# EAGLE library part 5584ТЛ2 (library std-logic-5584series)
АЕЯР.431200.209 ТУ 5584ТЛ2У, 5584ТЛ2АУ - Шесть триггеров Шмитта-инверторов.
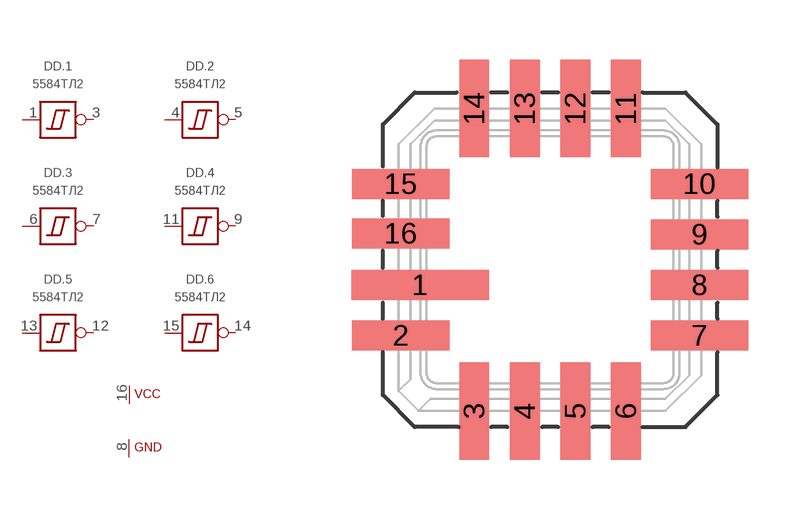
[diagram p20: symbol with the pads of 5119.16-А; footprint 5119.16-А]

Designator prefix DD; gates .3=5584ТЛ2 .1=5584ТЛ2 .4=5584ТЛ2 .2=5584ТЛ2 .5=5584ТЛ2 .6=5584ТЛ2 G$7=5584_PWR3

## 5584ТЛ2У  [5119.16-А]
1  .1:A  in
3  .1:Y  out
4  .2:A  in
5  .2:Y  out
6  .3:A  in
7  .3:Y  out
8  G$7:GND  pwr
9  .4:Y  out
11  .4:A  in
12  .5:Y  out
13  .5:A  in
14  .6:Y  out
15  .6:A  in
16  G$7:VCC  pwr

## 5584ТЛ2АУ  [5119.16-А]
Pads as for 5119.16-А

## Footprint 5119.16-А (pad centres in mm)
smd 3.45 x 0.75: 1 -3.26,-0.635
smd 2.45 x 0.75: 2 -3.75,-1.905; 7 3.75,-1.905; 8 3.75,-0.635; 9 3.75,0.635; 10 3.75,1.905; 15 -3.75,1.905; 16 -3.75,0.66
smd 0.75 x 2.45: 3 -1.905,-3.8; 4 -0.635,-3.8; 5 0.635,-3.8; 6 1.905,-3.8; 11 1.905,3.8; 12 0.635,3.8; 13 -0.635,3.8; 14 -1.905,3.8